# Altium schematic symbol library 2021-05-20_21-10-27.SchLib: 2 symbols
Pins are listed as number, name and electrical type; pins without a type are passive.

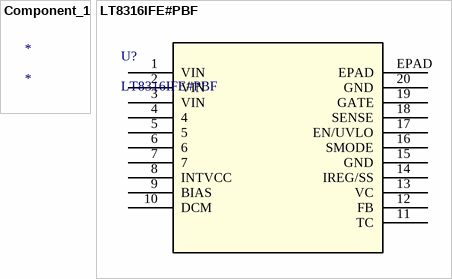
[diagram p0: symbols Component_1 to LT8316IFE#PBF]

## Component_1
designator *

## LT8316IFE#PBF
designator U?
No Description Available; Vendor: Analog Devices Inc; Built_By: EMA_Jessica; SourceLibrary: Analog_Devices_2020-01-02; Manufacturer_Part_Number: LT8316IFE#PBF; Copyright: Copyright (C) 2018 Accelerated Designs. All rights reserved; RefDes: RefDes; Type: DEV
footprint TSSOP_20_ADI
pins: 1 VIN, 2 VIN, 3 VIN, 4, 5, 6, 7, 8 INTVCC, 9 BIAS, 10 DCM, 11 TC, 12 FB, 13 VC, 14 IREG/SS, 15 GND, 16 SMODE, 17 EN/UVLO, 18 SENSE, 19 GATE, 20 GND, EPAD